# Altium footprint library optos.PcbLib: 2 footprints
Each footprint in its own frame and in the unit in brackets; x right, y up, seen from the top. Pads: shape width x height; smd on the part's side, far side on the other; paste and mask are expansions set on the pad; w line width, h text height; cw(c..) or ccw(c..) is an arc to the next point about the centre after c.
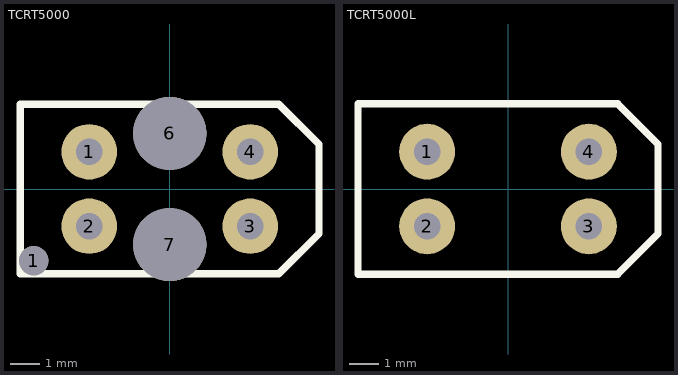
[diagram p0: the footprints below, top view; thin cyan lines are the x and y axes]

## TCRT5000 [mm] "Reflective Optical Sensor with Transistor Output"
pads (7):
  round 1 hole 1: 1(-4.65,-2.45)
  round 1.9 hole 0.9: 1(-2.75,1.27) 2(-2.75,-1.27) 3(2.75,-1.27) 4(2.75,1.27)
  round 2.5 hole 2.5: 6(0,1.9) 7(0,-1.9)
Top Overlay:
  lines w0.254: 3.724,-2.9 -5.1,-2.9 -5.1,2.9 3.724,2.9 5.1,1.524 5.1,-1.524 3.724,-2.9 ; 3.724,-2.9 3.556,-2.9 3.724,-2.9
3D body "TCRT5000 - pcb.stp": height 7.03, standoff -3.49, extent -5.1,-3.5 5.1,3.5

## TCRT5000L [mm] "Long lead version - Reflective Optical Sensor with Transistor Output"
pads (4):
  round 1.9 hole 0.9: 1(-2.75,1.27) 2(-2.75,-1.27) 3(2.75,-1.27) 4(2.75,1.27)
Top Overlay:
  lines w0.254: -5.1,-2.9 3.724,-2.9 5.1,-1.524 5.1,1.524 3.724,2.9 -5.1,2.9 -5.1,-2.9
3D body "TCR5000L.SLDPRT": height 23.91, standoff 0.01, extent -4.953,-3.3 5.047,3.3